# EAGLE library part A-PRO-MINI-A0 (library we-board)
Wattuino Pro Mini A0 (Arduino Pro Mini Clone with ATmega4809)
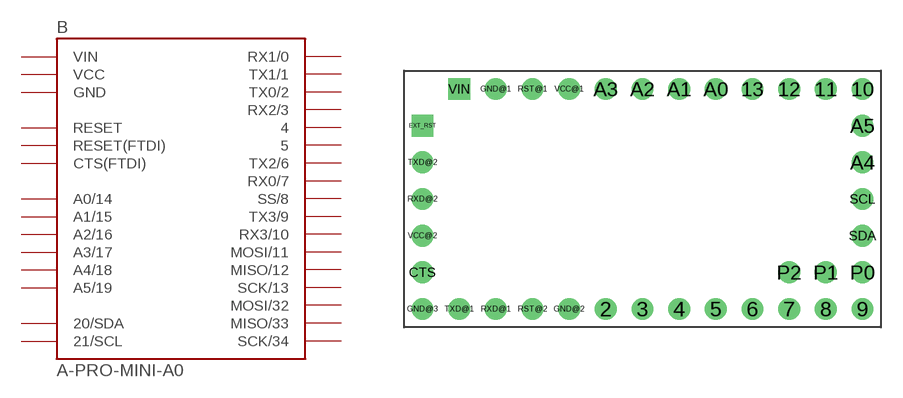
[diagram p16: symbol with the pads of A-PRO-MINI-A0_TP; footprint A-PRO-MINI-A0_TP]

Designator prefix B

## A-PRO-MINI-A0-TP  [A-PRO-MINI-A0_TP]
2  TX0/2
3  RX2/3
4  4
5  5
6  TX2/6
7  RX0/7
8  SS/8
9  TX3/9
10  RX3/10
11  MOSI/11
12  MISO/12
13  SCK/13
A0  A0/14
A1  A1/15
A2  A2/16
A3  A3/17
A4  A4/18
A5  A5/19
CTS  CTS(FTDI)
EXT_RST  RESET(FTDI)
GND@1  GND  pwr
GND@2  GND  pwr
GND@3  GND  pwr
P0  MOSI/32
P1  MISO/33
P2  SCK/34
RST@1  RESET
RST@2  RESET
RXD@1  RX1/0
RXD@2  RX1/0
SCL  21/SCL
SDA  20/SDA
TXD@1  TX1/1
TXD@2  TX1/1
VCC@1  VCC  pwr
VCC@2  VCC  pwr
VIN  VIN  pwr

## Footprint A-PRO-MINI-A0_TP (pad centres in mm)
21 tPlace
drill 1: 2 -2.54,-7.62; 3 0,-7.62; 4 2.54,-7.62; 5 5.08,-7.62; 6 7.62,-7.62; 7 10.16,-7.62; 8 12.7,-7.62; 9 15.24,-7.62; 10 15.24,7.62; 11 12.7,7.62; 12 10.16,7.62; 13 7.62,7.62; A0 5.08,7.62; A1 2.54,7.62; A2 0,7.62; A3 -2.54,7.62; A4 15.24,2.54; A5 15.24,5.08; CTS -15.24,-5.08; GND@1 -10.16,7.62; GND@2 -5.08,-7.62; GND@3 -15.24,-7.62; P0 15.24,-5.08; P1 12.7,-5.08; P2 10.16,-5.08; RST@1 -7.62,7.62; RST@2 -7.62,-7.62; RXD@1 -10.16,-7.62; RXD@2 -15.24,0; SCL 15.24,0; SDA 15.24,-2.54; TXD@1 -12.7,-7.62; TXD@2 -15.24,2.54; VCC@1 -5.08,7.62; VCC@2 -15.24,-2.54
drill 1 square: EXT_RST -15.24,5.08; VIN -12.7,7.62